# EAGLE library part 05_PINHEAD_1X6 (library femtoduino)
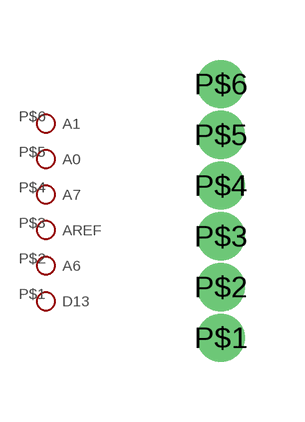
[diagram p1: symbol with the pads of 05_PINHEAD_1X6_PACKAGE; footprint 05_PINHEAD_1X6_PACKAGE]

Designator prefix -

## 05_PINHEAD_1X6  [05_PINHEAD_1X6_PACKAGE]
P$1  D13
P$2  A6
P$3  AREF
P$4  A7
P$5  A0
P$6  A1

## Footprint 05_PINHEAD_1X6_PACKAGE (pad centres in mm)
drill 0.7 pad 1.143: P$1 0,0; P$2 0,1.27; P$3 0,2.54; P$4 0,3.81; P$5 0,5.08; P$6 0,6.35